# Altium footprint library JST_B4B-XH-A.PcbLib: 1 footprints
Each footprint in its own frame and in the unit in brackets; x right, y up, seen from the top. Pads: shape width x height; smd on the part's side, far side on the other; paste and mask are expansions set on the pad; w line width, h text height; cw(c..) or ccw(c..) is an arc to the next point about the centre after c.
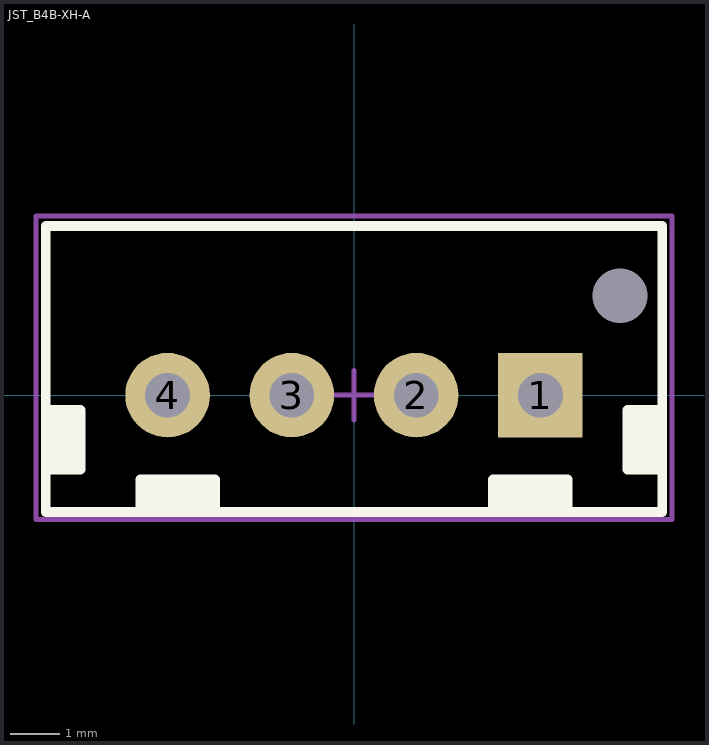
[diagram p0: the footprint, top view; thin cyan lines are the x and y axes]

## JST_B4B-XH-A [mm] "JST_B4B-XH-A"
height 7
pads (5):
  rect 1.7x1.7 hole 0.9 mask+0.05: 1(3.75,0)
  round 1.7 hole 0.9 mask+0.05: 2(1.25,0) 3(-1.25,0) 4(-3.75,0)
  round 0 hole 1.1 unplated mask+0.05: 5(5.35,2)
Top Overlay:
  rectangle: 5.5,-1.5 6.2,-0.3
  region: 2.8,-1.7 2.8,-2.3 4.3,-2.3 4.3,-1.7
  region: -5.5,-0.3 -6.2,-0.3 -6.2,-1.5 -5.5,-1.5
  region: -4.3,-1.7 -4.3,-2.3 -2.8,-2.3 -2.8,-1.7
  lines w0.2: -6.2,-1.5 -5.5,-1.5 -5.5,-0.3 -6.2,-0.3 ; -4.3,-2.3 -4.3,-1.7 -2.8,-1.7 -2.8,-2.3 ; 2.8,-2.3 2.8,-1.7 4.3,-1.7 4.3,-2.3 ; 6.2,-1.5 5.5,-1.5 5.5,-0.3 6.2,-0.3 ; -6.2,-2.35 -6.2,3.4 6.2,3.4 6.2,-2.35 -6.2,-2.35
Mechanical 13:
  lines w0.1: -6.2,-2.35 6.2,-2.35 6.2,3.4 -6.2,3.4 -6.2,-2.35
Mechanical 15:
  lines w0.1: -0.5,0 0.5,0 ; 0,-0.5 0,0.5 ; -6.4,-2.5 6.4,-2.5 6.4,3.6 -6.4,3.6 -6.4,-2.5
3D body: height 7, standoff 0, extent -6.2,-2.35 6.2,3.4